# Altium footprint library Mobo.PcbLib: 35 footprints (part 1 of 3)
Each footprint in its own frame and in the unit in brackets; x right, y up, seen from the top. Pads: shape width x height; smd on the part's side, far side on the other; paste and mask are expansions set on the pad; w line width, h text height; cw(c..) or ccw(c..) is an arc to the next point about the centre after c.
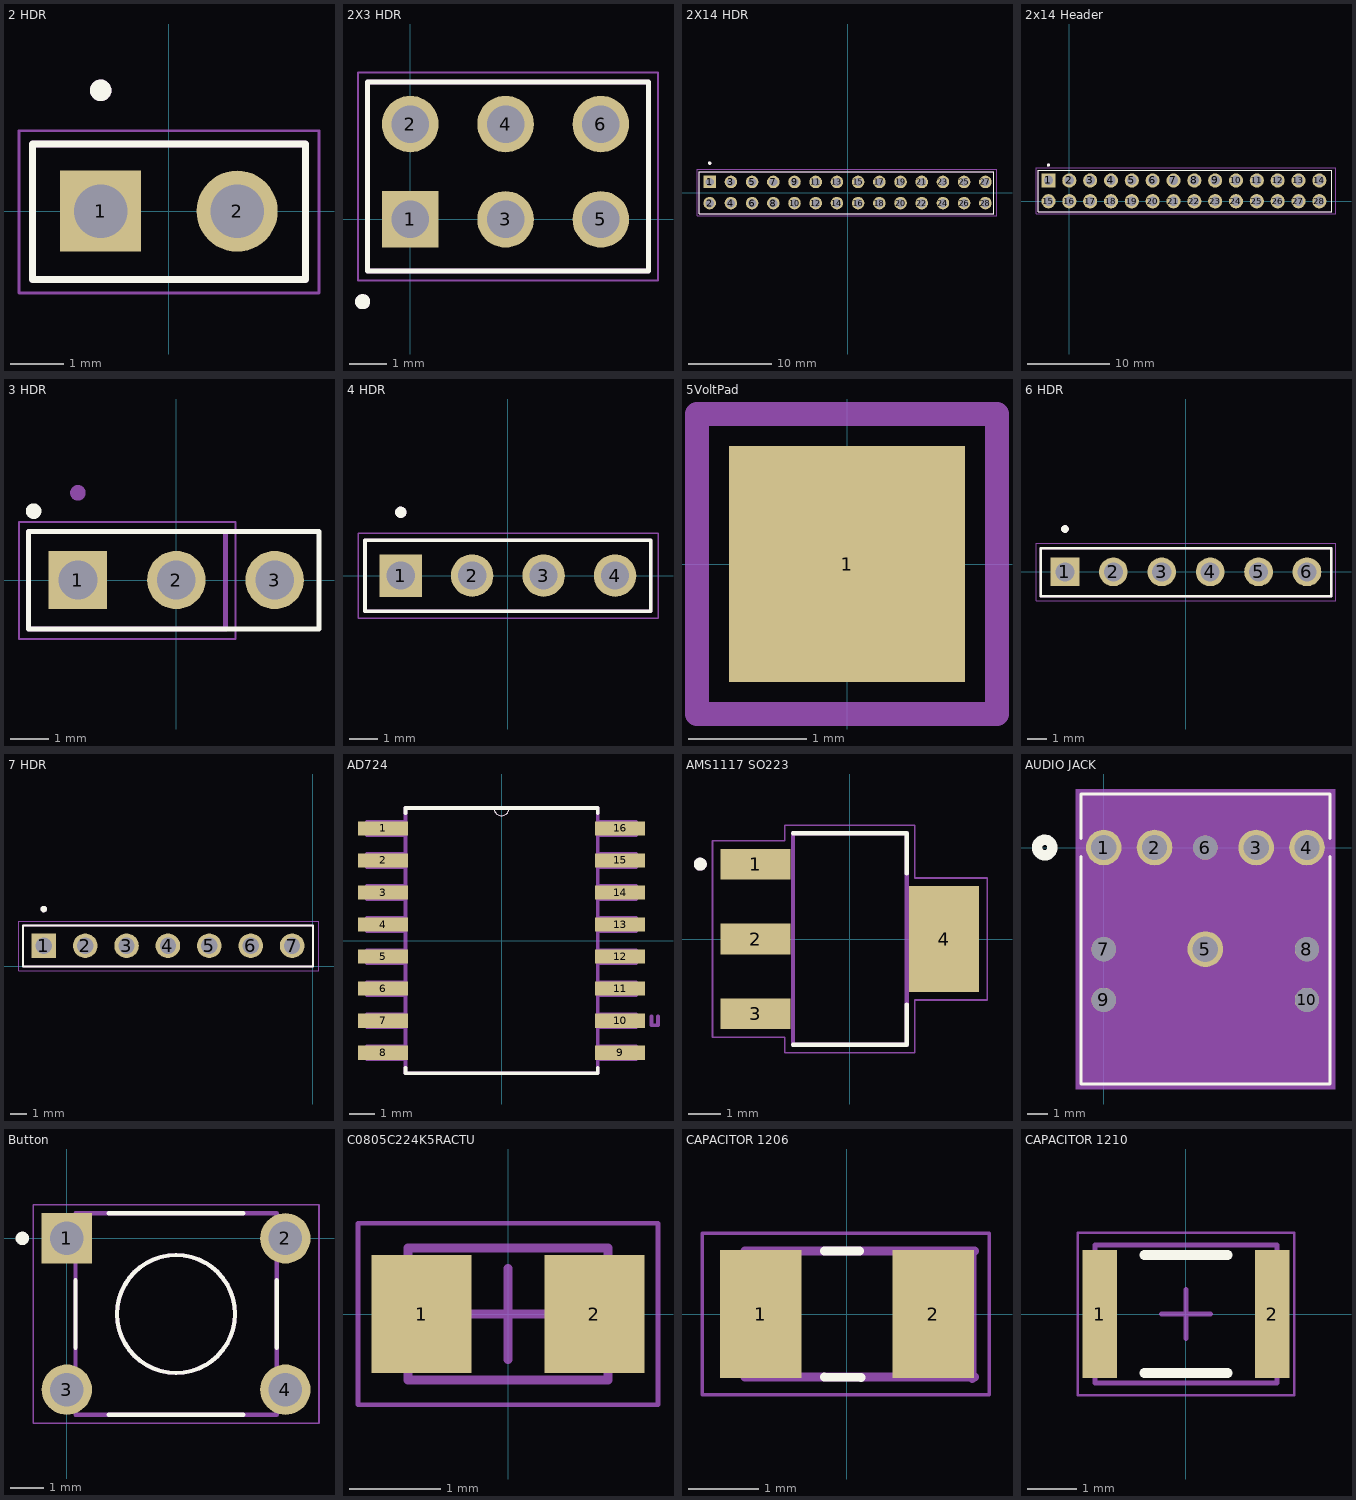
[diagram p0: the footprints below, top view; thin cyan lines are the x and y axes]

## 2 HDR [mm] "1x2 pin header"
pads (2):
  rect 1.508x1.508 hole 1: 1(-1.27,0)
  round 1.508 hole 1: 2(1.27,0)
Top Overlay:
  circle w0.2: c-1.27,2.25 r0.1
  lines w0.127: -2.54,-1.27 2.54,-1.27 2.54,1.25 -2.54,1.25 -2.54,-1.27
Mechanical 13:
  circle w0.2: c-1.27,2.25 r0.1
  lines w0.127: -2.54,-1.27 2.54,-1.27 2.54,1.25 -2.54,1.25 -2.54,-1.27
Mechanical 15:
  lines w0.05: -2.79,-1.524 2.794,-1.524 2.794,1.5 -2.79,1.5 -2.79,-1.524

## 2X3 HDR [mm] "2x3 pin header"
pads (6):
  rect 1.508x1.508 hole 1: 1(0,0)
  round 1.508 hole 1: 2(0,2.54) 3(2.54,0) 4(2.54,2.54) 5(5.08,0) 6(5.08,2.54)
Top Overlay:
  circle w0.2: c-1.27,-2.195 r0.1
  lines w0.127: -1.143,-1.377 6.35,-1.377 6.35,3.663 -1.143,3.663 -1.143,-1.377
Mechanical 13:
  circle w0.2: c-1.27,-2.195 r0.1
  lines w0.127: -1.143,-1.377 6.35,-1.377 6.35,3.663 -1.143,3.663 -1.143,-1.377
Mechanical 15:
  lines w0.05: -1.393,-1.627 6.604,-1.627 6.604,3.913 -1.393,3.913 -1.393,-1.627

## 2X14 HDR [mm] "2x14 pin header"
pads (28):
  rect 1.508x1.508 hole 1: 1(-16.51,1.27)
  round 1.508 hole 1: 2(-16.51,-1.27) 3(-13.97,1.27) 4(-13.97,-1.27) 5(-11.43,1.27) 6(-11.43,-1.27) 7(-8.89,1.27) 8(-8.89,-1.27) 9(-6.35,1.27) 10(-6.35,-1.27) 11(-3.81,1.27) 12(-3.81,-1.27) 13(-1.27,1.27) 14(-1.27,-1.27) 15(1.27,1.27) 16(1.27,-1.27) 17(3.81,1.27) 18(3.81,-1.27) 19(6.35,1.27) 20(6.35,-1.27) 21(8.89,1.27) 22(8.89,-1.27) 23(11.43,1.27) 24(11.43,-1.27) 25(13.97,1.27) 26(13.97,-1.27) 27(16.51,1.27) 28(16.51,-1.27)
Top Overlay:
  circle w0.2: c-16.51,3.52 r0.1
  lines w0.127: -17.78,-2.52 -17.78,2.52 17.526,2.52 17.526,-2.52 -17.78,-2.52
Mechanical 13:
  circle w0.2: c-16.51,3.52 r0.1
  lines w0.127: -17.78,-2.52 -17.78,2.52 17.526,2.52 17.526,-2.52 -17.78,-2.52
Mechanical 15:
  lines w0.05: -18.03,-2.77 -18.03,2.77 17.907,2.77 17.907,-2.77 -18.03,-2.77

## 2x14 Header [mm]
pads (28):
  rect 1.725x1.725 hole 1.15: 1(-2.54,2.54)
  round 1.725 hole 1.15: 2(0,2.54) 3(2.54,2.54) 4(5.08,2.54) 5(7.62,2.54) 6(10.16,2.54) 7(12.7,2.54) 8(15.24,2.54) 9(17.78,2.54) 10(20.32,2.54) 11(22.86,2.54) 12(25.4,2.54) 13(27.94,2.54) 14(30.48,2.54) 15(-2.54,0) 16(0,0) 17(2.54,0) 18(5.08,0) 19(7.62,0) 20(10.16,0) 21(12.7,0) 22(15.24,0) 23(17.78,0) 24(20.32,0) 25(22.86,0) 26(25.4,0) 27(27.94,0) 28(30.48,0)
Top Overlay:
  circle w0.2: c-2.54,4.41 r0.1
  lines w0.127: -3.81,-1.27 32.004,-1.27 32.004,3.81 -3.81,3.81 -3.81,-1.27
Mechanical 13:
  circle w0.2: c-2.54,4.41 r0.1
  lines w0.127: -3.81,-1.27 32.004,-1.27 32.004,3.81 -3.81,3.81 -3.81,-1.27
Mechanical 15:
  lines w0.05: -4.06,-1.52 32.512,-1.52 32.512,4.06 -4.06,4.06 -4.06,-1.52

## 3 HDR [mm] "1x3 pin header"
pads (3):
  rect 1.508x1.508 hole 1: 1(-2.54,0)
  round 1.508 hole 1: 2(0,0) 3(2.54,0)
Top Overlay:
  circle w0.2: c-3.683,1.778 r0.1
  lines w0.127: -3.81,-1.27 3.683,-1.27 3.683,1.25 -3.81,1.25 -3.81,-1.27
Mechanical 13:
  circle w0.2: c-2.54,2.25 r0.1
  lines w0.127: -3.81,-1.27 1.27,-1.27 1.27,1.25 -3.81,1.25 -3.81,-1.27
Mechanical 15:
  lines w0.05: -4.06,-1.524 1.524,-1.524 1.524,1.5 -4.06,1.5 -4.06,-1.524

## 4 HDR [mm] "1x4 pin header"
pads (4):
  rect 1.508x1.508 hole 1: 1(-3.81,0)
  round 1.508 hole 1: 2(-1.27,0) 3(1.27,0) 4(3.81,0)
Top Overlay:
  circle w0.2: c-3.81,2.25 r0.1
  lines w0.127: -5.08,-1.27 5.08,-1.27 5.08,1.25 -5.08,1.25 -5.08,-1.27
Mechanical 13:
  circle w0.2: c-3.81,2.25 r0.1
  lines w0.127: -5.08,-1.27 5.08,-1.27 5.08,1.25 -5.08,1.25 -5.08,-1.27
Mechanical 15:
  lines w0.05: -5.33,-1.524 5.334,-1.524 5.334,1.5 -5.33,1.5 -5.33,-1.524

## 5VoltPad [mm]
pads (1):
  rect 2x2 smd: 1(0,0)
Mechanical 13:
  lines w0.2: -1.27,-1.27 -1.27,1.27 1.27,1.27 1.27,-1.27 -1.27,-1.27

## 6 HDR [mm] "1x6 pin header"
pads (6):
  rect 1.508x1.508 hole 1: 1(-6.35,0)
  round 1.508 hole 1: 2(-3.81,0) 3(-1.27,0) 4(1.27,0) 5(3.81,0) 6(6.35,0)
Top Overlay:
  circle w0.2: c-6.35,2.25 r0.1
  lines w0.127: -7.62,-1.27 -7.62,1.25 7.62,1.25 7.62,-1.27 -7.62,-1.27
Mechanical 13:
  circle w0.2: c-6.35,2.25 r0.1
  lines w0.127: -7.62,-1.27 -7.62,1.25 7.62,1.25 7.62,-1.27 -7.62,-1.27
Mechanical 15:
  lines w0.05: -7.87,-1.524 -7.87,1.5 7.874,1.5 7.874,-1.524 -7.87,-1.524

## 7 HDR [mm] "1x7 pin header"
pads (7):
  rect 1.508x1.508 hole 1: 1(-16.51,1.27)
  round 1.508 hole 1: 2(-13.97,1.27) 3(-11.43,1.27) 4(-8.89,1.27) 5(-6.35,1.27) 6(-3.81,1.27) 7(-1.27,1.27)
Top Overlay:
  circle w0.2: c-16.51,3.52 r0.1
  lines w0.127: -17.78,0 -17.78,2.52 0,2.52 0,0 -17.78,0
Mechanical 13:
  circle w0.2: c-16.51,3.52 r0.1
  lines w0.127: -17.78,0 -17.78,2.52 0,2.52 0,0 -17.78,0
Mechanical 15:
  lines w0.05: -18.03,-0.254 -18.03,2.77 0.381,2.77 0.381,-0.254 -18.03,-0.254

## AD724 [mil] "AD724 SOP16"
pads (16):
  rect 78x22 smd: 1(-185,175) 2(-185,125) 3(-185,75) 4(-185,25) 5(-185,-25) 6(-185,-75) 7(-185,-125) 8(-185,-175) 9(185,-175) 10(185,-125) 11(185,-75) 12(185,-25) 13(185,25) 14(185,75) 15(185,125) 16(185,175)
Top Overlay:
  lines w0: -12,207 ccw(c0,207) 12,207
  lines w6: -150,-199 -150,-207 150,-207 150,-199 ; -150,199 -150,207 -12,207 12,207 150,207 150,199
Mechanical 13:
  lines w0: -12,207 ccw(c0,207) 12,207
  lines w6: 234,-118 234,-132 244,-132 244,-118 ; -210,-185 -210,-165 -150,-165 -150,-185 -210,-185 ; -210,-135 -210,-115 -150,-115 -150,-135 -210,-135 ; -210,-85 -210,-65 -150,-65 -150,-85 -210,-85 ; -210,-35 -210,-15 -150,-15 -150,-35 -210,-35 ; -210,15 -210,35 -150,35 -150,15 -210,15 ; -210,65 -210,85 -150,85 -150,65 -210,65 ; -210,115 -210,135 -150,135 -150,115 -210,115 ; -210,165 -210,185 -150,185 -150,165 -210,165 ; -150,-207 150,-207 150,207 12,207 -12,207 -150,207 -150,-207 ; 150,-185 150,-165 210,-165 210,-185 150,-185 ; 150,-135 150,-115 210,-115 210,-135 150,-135 ; 150,-85 150,-65 210,-65 210,-85 150,-85 ; 150,-35 150,-15 210,-15 210,-35 150,-35 ; 150,15 150,35 210,35 210,15 150,15 ; 150,65 150,85 210,85 210,65 150,65 ; 150,115 150,135 210,135 210,115 150,115 ; 150,165 150,185 210,185 210,165 150,165
  text "*" at -217.21,192.19 h50.05
3D body "step_temp.STEP": height 103.26, standoff -1.07, extent -208.25,-202.76 198.25,202.76

## AMS1117 SO223 [mm] "AMS1117 SO223 package"
pads (4):
  rect 2.15x0.95 smd: 1(-2.9,2.3) 2(-2.9,0) 3(-2.9,-2.3)
  rect 2.15x3.25 smd: 4(2.9,0)
Top Overlay:
  circle w0.2: c-4.6,2.3 r0.1
  lines w0.127: -1.75,-3.25 1.75,-3.25 1.75,-2.01 ; -1.75,3.25 1.75,3.25 1.75,2.01
Mechanical 13:
  circle w0.2: c-4.6,2.3 r0.1
  lines w0.127: -1.75,-3.25 1.75,-3.25 1.75,3.25 -1.75,3.25 -1.75,-3.25
Mechanical 15:
  lines w0.05: -4.225,-3.025 -2,-3.025 -2,-3.5 2,-3.5 2,-1.875 4.225,-1.875 4.225,1.875 2,1.875 2,3.5 -2,3.5 -2,3.025 -4.225,3.025 -4.225,-3.025
3D body "NOPB.STEP": height 1.8, standoff 0, extent -3.499,-3.25 3.499,3.25

## AUDIO JACK [mil] "3.5mm audio jack"
pads (10):
  round 69 hole 49: 1(0,0) 2(98.43,0) 3(295.28,0) 4(393.7,0) 5(196.85,-196.85)
  round 47 hole 47 unplated mask+0: 6(196.85,0)
  round 47 hole 47 unplated: 7(0,-196.85) 8(393.7,-196.85) 9(0,-295.28) 10(393.7,-295.28)
Top Overlay:
  circle w20: c-114.37,0 r15
  lines w6: -44.37,-17.24 -44.37,-457.76 438.07,-457.76 438.07,-17.24 ; -44.37,17.24 -44.37,103.43 438.07,103.43 438.07,17.24
Bottom Overlay:
  circle w20: c-114.37,0 r15
Mechanical 5:
  region: -54.37,113.43 448.07,113.43 448.07,-467.76 -54.37,-467.76
Mechanical 13:
  circle w20: c0,75 r15
  lines w1: -39.37,-452.76 433.07,-452.76 433.07,98.43 -39.37,98.43 -39.37,-452.76
Mechanical 15:
  region: 443.07,108.43 -49.37,108.43 -49.37,-462.76 443.07,-462.76
  lines w6: -49.37,-462.76 -49.37,108.43 443.07,108.43 443.07,-462.76 -49.37,-462.76
3D body "CUI_DEVICES_SJ1-3525NG-GR.step": height 236.22, standoff -110.24, extent -42.44,-456.57 430,96.57
3D body: height 10, standoff 0, extent 0,0 10,10

## Button [mm]
pads (4):
  rect 1.498x1.498 / inner round 1.498 / far side rect 1.498x1.498 hole 0.99: 1(0,0)
  round 1.498 hole 0.99: 2(6.5,0) 3(0,-4.5) 4(6.5,-4.5)
Top Overlay:
  circle w0.127: c3.25,-2.25 r1.755
  circle w0.2: c-1.322,0 r0.1
  lines w0.127: 0.255,-3.25 0.255,-1.25 ; 1.25,-5.245 5.25,-5.245 ; 1.25,0.745 5.25,0.745 ; 6.245,-3.25 6.245,-1.25
Mechanical 13:
  circle w0.127: c3.25,-2.25 r1.755
  lines w0.127: 0.255,-5.245 0.255,0.745 6.245,0.745 6.245,-5.245 0.255,-5.245
Mechanical 15:
  lines w0.05: -1,-5.5 -1,1 7.5,1 7.5,-5.5 -1,-5.5

## C0805C224K5RACTU [mm] "C0805C224K5RACTU - 0805 SMD Capacitor"
height 1.4
pads (2):
  rect 1.1x1.3 smd: 1(-0.95,0) 2(0.95,0)
Mechanical 13:
  lines w0.1: -1.1,-0.725 1.1,-0.725 1.1,0.725 -1.1,0.725 -1.1,-0.725
Mechanical 15:
  lines w0.05: -1.65,-1 1.65,-1 1.65,1 -1.65,1 -1.65,-1
  lines w0.1: -0.5,0 0.5,0 ; 0,-0.5 0,0.5
3D body "C0805C224K5RACTU.step": height 1.4, standoff 0, extent -1.1,-0.725 1.1,0.725

## CAPACITOR 1206 [mm] "100nF & 4.7pF"
pads (2):
  rect 1.16x1.82 smd: 1(-1.23,0) 2(1.23,0)
Top Overlay:
  lines w0.127: -0.325,-0.9 0.198,-0.903 ; -0.325,0.9 0.181,0.899
Mechanical 13:
  lines w0.127: 1.786,-0.92 1.786,-0.47 1.786,0.43 1.786,0.88 ; 1.818,-0.9 -1.455,-0.9 -1.455,0.9 1.818,0.9
Mechanical 15:
  lines w0.05: -2.063,-1.15 2.028,-1.15 2.028,1.15 -2.063,1.15 -2.063,-1.15
3D body "step_temp.STEP": height 0.85, standoff 0, extent -1.727,-0.8 1.473,0.8

## CAPACITOR 1210 [mm] "1210 SMD capacitor - 22µF"
height 3.3
pads (2):
  rect 0.7x2.6 smd: 1(-1.75,0) 2(1.75,0)
Top Overlay:
  lines w0.2: -0.85,-1.2 0.85,-1.2 ; -0.85,1.2 0.85,1.2
Mechanical 13:
  lines w0.1: -1.85,-1.4 1.85,-1.4 1.85,1.4 -1.85,1.4 -1.85,-1.4
Mechanical 15:
  lines w0.05: -2.2,-1.65 2.2,-1.65 2.2,1.65 -2.2,1.65 -2.2,-1.65
  lines w0.1: -0.5,0 0.5,0 ; 0,-0.5 0,0.5
3D body: height 0.25, standoff 0, extent -1.85,-1.4 1.85,1.4